# Altium schematic symbol library IC_RF.SchLib: 2 symbols
Pins are listed as number, name and electrical type; pins without a type are passive.

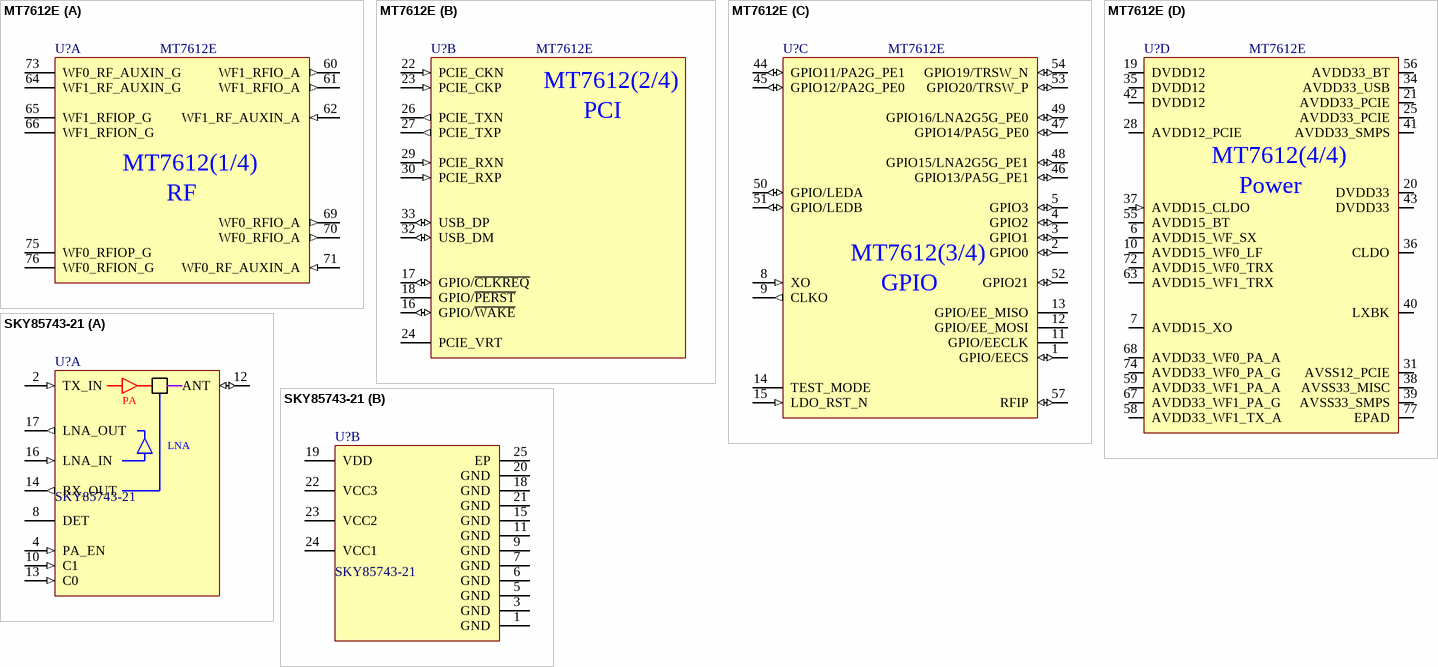
[diagram p0: symbols MT7612E to SKY85743-21]

## MT7612E
designator U?
High-performance 802.11ac Wi-Fi solution; PCB Footprint: MT7662/WSQFN76/SMD/P0.4/9X9/S
footprint QFN40P900X900X80_HS-77N (QFN, 76-Leads, Body 9.00x9.00mm, Pitch 0.40mm, Thermal Pad 7.20x7.20mm, IPC Medium Density)
part A pins: 60 WF1_RFIO_A (out), 61 WF1_RFIO_A (out), 62 WF1_RF_AUXIN_A (in), 64 WF1_RF_AUXIN_G, 65 WF1_RFIOP_G, 66 WF1_RFION_G, 69 WF0_RFIO_A (out), 70 WF0_RFIO_A (out), 71 WF0_RF_AUXIN_A (in), 73 WF0_RF_AUXIN_G, 75 WF0_RFIOP_G, 76 WF0_RFION_G
part B pins: 16 GPIO/~{WAKE} (io), 17 GPIO/~{CLKREQ} (io), 18 GPIO/~{PERST}, 22 PCIE_CKN (in), 23 PCIE_CKP (in), 24 PCIE_VRT, 26 PCIE_TXN (out), 27 PCIE_TXP (out), 29 PCIE_RXN (in), 30 PCIE_RXP (in), 32 USB_DM (io), 33 USB_DP (io)
part C pins: 1 GPIO/EECS (io), 2 GPIO0 (io), 3 GPIO1 (io), 4 GPIO2 (io), 5 GPIO3 (io), 8 XO (in), 9 CLKO (out), 11 GPIO/EECLK, 12 GPIO/EE_MOSI, 13 GPIO/EE_MISO, 14 TEST_MODE, 15 LDO_RST_N (in), 44 GPIO11/PA2G_PE1 (io), 45 GPIO12/PA2G_PE0 (io), 46 GPIO13/PA5G_PE1 (io), 47 GPIO14/PA5G_PE0 (io), 48 GPIO15/LNA2G5G_PE1 (io), 49 GPIO16/LNA2G5G_PE0 (io), 50 GPIO/LEDA (io), 51 GPIO/LEDB (io), 52 GPIO21 (io), 53 GPIO20/TRSW_P (io), 54 GPIO19/TRSW_N (io), 57 RFIP (io)
part D pins: 6 AVDD15_WF_SX (power), 7 AVDD15_XO (power), 10 AVDD15_WF0_LF (power), 19 DVDD12 (power), 20 DVDD33 (power), 21 AVDD33_PCIE (power), 25 AVDD33_PCIE (power), 28 AVDD12_PCIE (power), 31 AVSS12_PCIE (power), 34 AVDD33_USB (power), 35 DVDD12 (power), 36 CLDO (power), 37 AVDD15_CLDO (in), 38 AVSS33_MISC (power), 39 AVSS33_SMPS (power), 40 LXBK (power), 41 AVDD33_SMPS (power), 42 DVDD12 (power), 43 DVDD33 (power), 55 AVDD15_BT (power), 56 AVDD33_BT (power), 58 AVDD33_WF1_TX_A (power), 59 AVDD33_WF1_PA_A (power), 63 AVDD15_WF1_TRX (power), 67 AVDD33_WF1_PA_G (power), 68 AVDD33_WF0_PA_A (power), 72 AVDD15_WF0_TRX (power), 74 AVDD33_WF0_PA_G (power), 77 EPAD (power)
part A text: MT7612(1/4); RF
part B text: MT7612(2/4); PCI
part C text: MT7612(3/4); GPIO
part D text: MT7612(4/4); Power

## SKY85743-21
designator U?
5 GHz High-Power WLAN Front-End Module; Full Part Number: SKY85743-21
footprint SKY85743-21
part A pins: 2 TX_IN (in), 4 PA_EN (in), 8 DET, 10 C1 (in), 12 ANT (io), 13 C0 (in), 14 RX_OUT (out), 16 LNA_IN (in), 17 LNA_OUT (out)
part B pins: 1 GND, 3 GND, 5 GND, 6 GND, 7 GND, 9 GND, 11 GND, 15 GND, 18 GND, 19 VDD, 20 GND, 21 GND, 22 VCC3, 23 VCC2, 24 VCC1, 25 EP
part A text: PA; LNA